# EAGLE library part MODICE_30 (library BMS)
part# 581-01-30-046 Cinch MODice 30 enclosure header
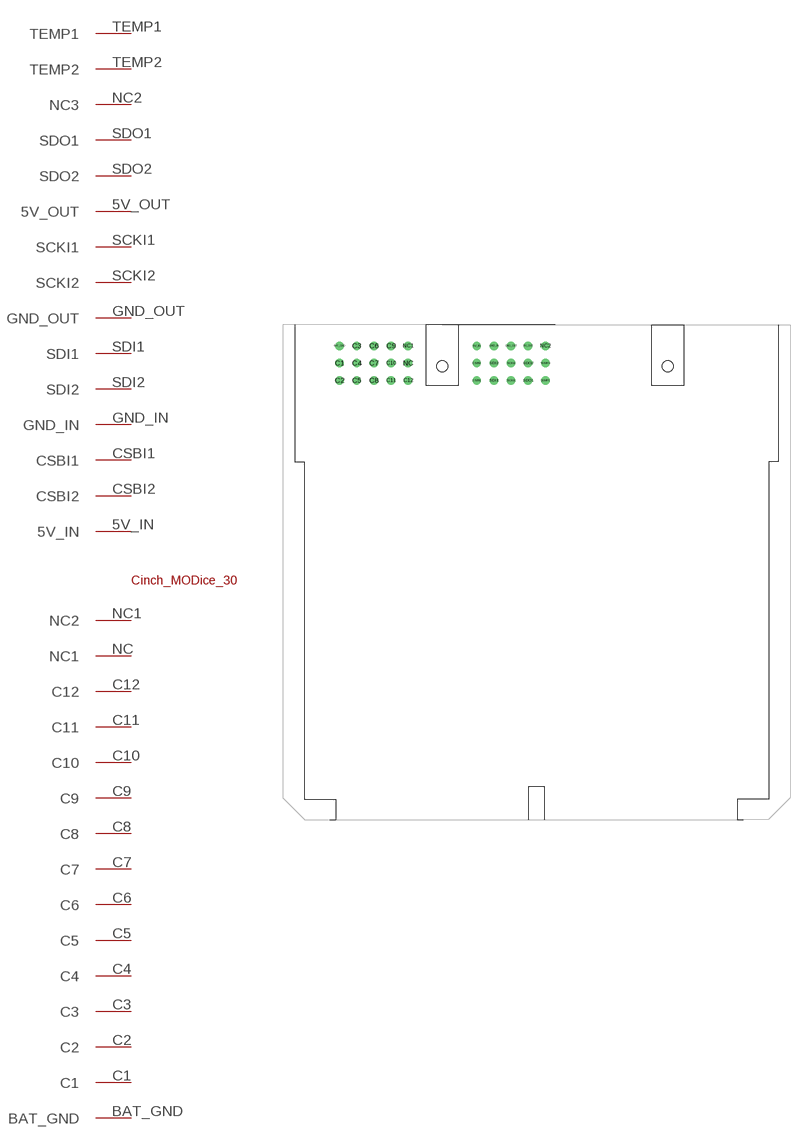
[diagram p6: symbol with the pads of CINCH_HEADER30; footprint CINCH_HEADER30]

Designator prefix -

## MODICE_30  [CINCH_HEADER30]
5V_IN  5V_IN
5V_OUT  5V_OUT
BAT_GND  BAT_GND
C1  C1
C2  C2
C3  C3
C4  C4
C5  C5
C6  C6
C7  C7
C8  C8
C9  C9
C10  C10
C11  C11
C12  C12
CSBI1  CSBI1
CSBI2  CSBI2
GND_IN  GND_IN
GND_OUT  GND_OUT
NC  NC1
NC1  NC2
NC2  NC3
SCKI1  SCKI1
SCKI2  SCKI2
SDI1  SDI1
SDI2  SDI2
SDO1  SDO1
SDO2  SDO2
TEMP1  TEMP1
TEMP2  TEMP2

## Footprint CINCH_HEADER30 (pad centres in mm)
drill 1.3 round: 5V_IN 7.92,4.704; 5V_OUT 19.8,4.704; BAT_GND -23.76,4.704; C1 -23.76,0.714; C2 -23.76,-3.276; C3 -19.8,4.704; C4 -19.8,0.714; C5 -19.8,-3.276; C6 -15.84,4.704; C7 -15.84,0.714; C8 -15.84,-3.276; C9 -11.88,4.704; C10 -11.88,0.714; C11 -11.88,-3.276; C12 -7.92,-3.276; CSBI1 7.92,-3.276; CSBI2 7.92,0.714; GND_IN 11.88,4.704; GND_OUT 15.84,4.704; NC -7.92,0.714; NC1 -7.92,4.704; NC2 23.76,4.704; SCKI1 15.84,-3.276; SCKI2 15.84,0.714; SDI1 11.88,-3.276; SDI2 11.88,0.714; SDO1 19.8,-3.276; SDO2 19.8,0.714; TEMP1 23.76,-3.276; TEMP2 23.76,0.714
hole 2.54 at 0,0.003
hole 2.54 at 52.07,0.003